# Altium footprint library ti_pw0020a.PcbLib: 1 footprints
Each footprint in its own frame and in the unit in brackets; x right, y up, seen from the top. Pads: shape width x height; smd on the part's side, far side on the other; paste and mask are expansions set on the pad; w line width, h text height; cw(c..) or ccw(c..) is an arc to the next point about the centre after c.
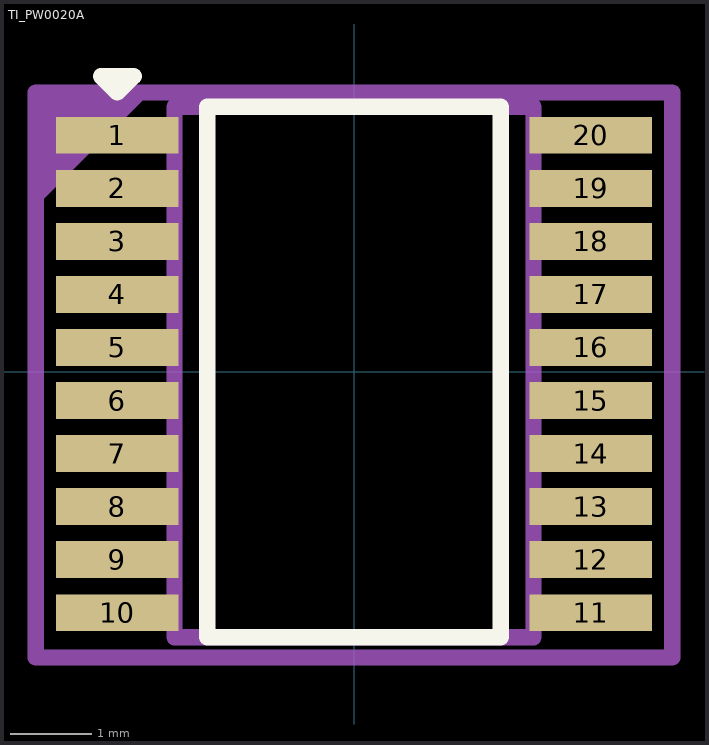
[diagram p0: the footprint, top view; thin cyan lines are the x and y axes]

## TI_PW0020A [mm]
height 1.2
pads (20):
  rect 1.5x0.45 smd: 1(-2.9,2.9) 2(-2.9,2.25) 3(-2.9,1.6) 4(-2.9,0.95) 5(-2.9,0.3) 6(-2.9,-0.35) 7(-2.9,-1) 8(-2.9,-1.65) 9(-2.9,-2.3) 10(-2.9,-2.95) 11(2.9,-2.95) 12(2.9,-2.3) 13(2.9,-1.65) 14(2.9,-1) 15(2.9,-0.35) 16(2.9,0.3) 17(2.9,0.95) 18(2.9,1.6) 19(2.9,2.25) 20(2.9,2.9)
Top Overlay:
  lines w0.2: -3.1,3.625 -2.7,3.625 -2.9,3.425 -3.1,3.625 ; -1.8,-3.25 -1.8,3.25 1.8,3.25 1.8,-3.25 -1.8,-3.25
Top Designator:
  text ".Designator" at -2.2,-0.367 h1
Top 3D Body:
  lines w0.2: -2.2,-3.25 -2.2,3.25 2.2,3.25 2.2,-3.25 -2.2,-3.25
Top Courtyard:
  region: -3.9,3.425 -2.5,3.425 -3.9,2.025
  lines w0.2: -3.9,-3.5 -3.9,3.425 3.9,3.425 3.9,-3.5 -3.9,-3.5
3D body "PW0020A.stp": height 1.14, standoff 0.01, extent -3.2,-3.25 3.2,3.25